# Altium footprint library CSAB0530.PcbLib: 1 footprints
Each footprint in its own frame and in the unit in brackets; x right, y up, seen from the top. Pads: shape width x height; smd on the part's side, far side on the other; paste and mask are expansions set on the pad; w line width, h text height; cw(c..) or ccw(c..) is an arc to the next point about the centre after c.
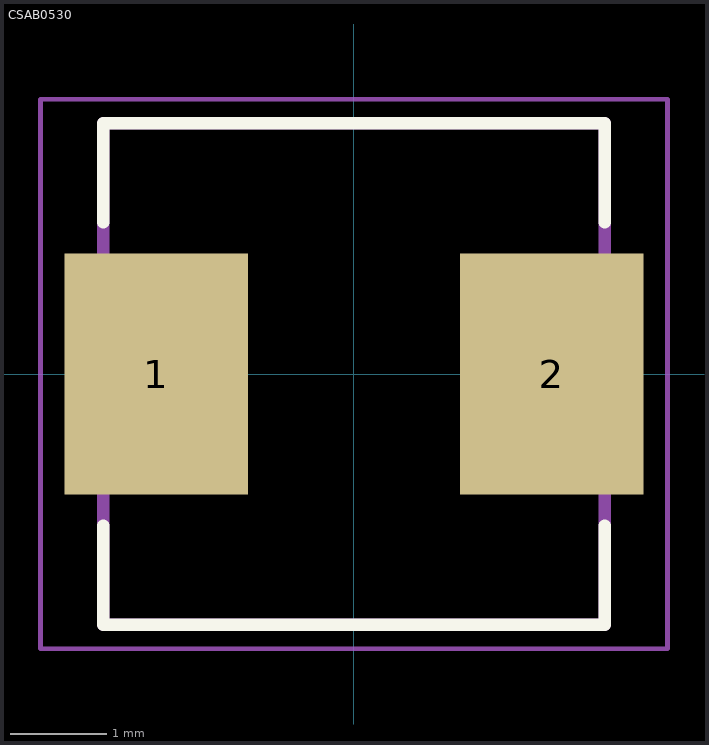
[diagram p0: the footprint, top view; thin cyan lines are the x and y axes]

## CSAB0530 [mm]
pads (2):
  rect 1.9x2.5 smd: 1(-2.05,0) 2(2.05,0)
Top Overlay:
  lines w0.127: -2.6,-1.57 -2.6,-2.6 2.6,-2.6 2.6,-1.57 ; -2.6,1.57 -2.6,2.6 2.6,2.6 2.6,1.57
Mechanical 13:
  lines w0.127: -2.6,-2.6 -2.6,2.6 2.6,2.6 2.6,-2.6 -2.6,-2.6
Mechanical 15:
  lines w0.05: -3.25,-2.85 -3.25,2.85 3.25,2.85 3.25,-2.85 -3.25,-2.85
3D body "step_temp.STEP": height 3, standoff 0, extent -2.7,-2.6 2.7,2.6